# EAGLE library part ADS8344N (library ADS8344N)
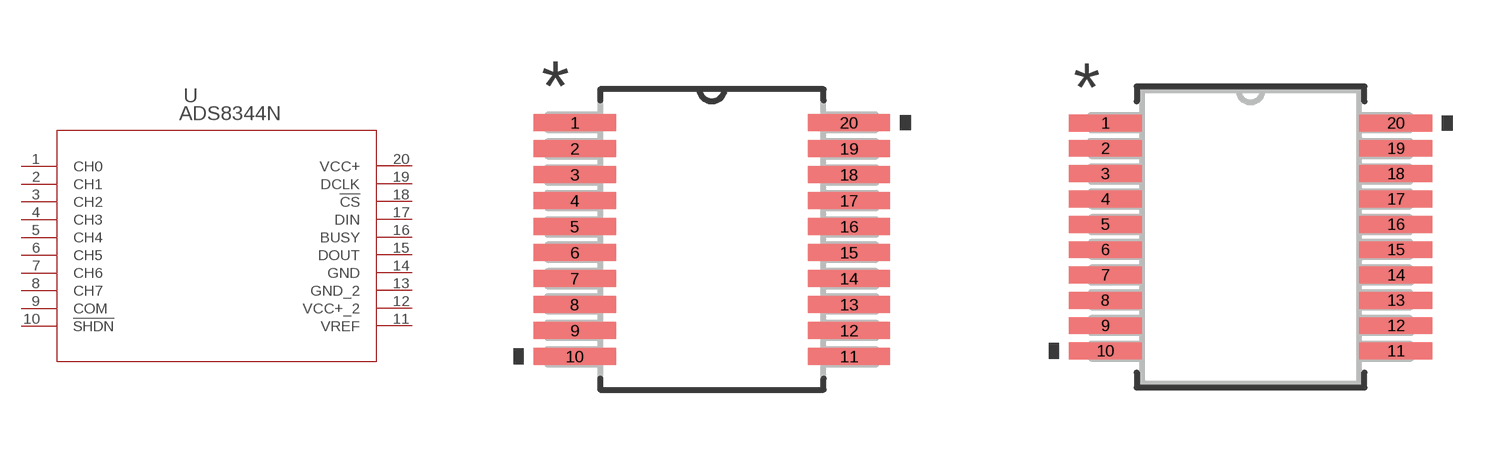
[diagram p0: symbol with the pads of DB20; footprints DB20, DB20-M]

Designator prefix U

## ADS8344N (DATASHEET_URL: http://www.ti.com/lit/gpn/ADS8344; DESCRIPTION: 16-Bit, 8-Channel Serial Output Sampling Analog-to-Digital Converter; FAMILY_NAME: PRECISION ADC (<=10MSPS); GENERIC_PART_NUMBER: ADS8344; INDUSTRY_STD_PKG_TYPE: SSOP; MANUFACTURER: Texas Instruments; PACKAGE_DESIGNATOR: DB; PIN_COUNT: 20)  [DB20]
1  CH0  in
2  CH1  in
3  CH2  in
4  CH3  in
5  CH4  in
6  CH5  in
7  CH6  in
8  CH7  in
9  COM  in
10  !SHDN  pas
11  VREF  in
12  VCC+_2  pwr
13  GND_2  pwr
14  GND  pwr
15  DOUT  out
16  BUSY  out
17  DIN  in
18  !CS  in
19  DCLK  in
20  VCC+  pwr

## ADS8344NDB20-M (DATASHEET_URL: http://www.ti.com/lit/gpn/ADS8344; DESCRIPTION: 16-Bit, 8-Channel Serial Output Sampling Analog-to-Digital Converter; FAMILY_NAME: PRECISION ADC (<=10MSPS); GENERIC_PART_NUMBER: ADS8344; INDUSTRY_STD_PKG_TYPE: SSOP; MANUFACTURER: Texas Instruments; PACKAGE_DESIGNATOR: DB; PIN_COUNT: 20)  [DB20-M]
Pads as for DB20

## ADS8344NDB20-L (DATASHEET_URL: http://www.ti.com/lit/gpn/ADS8344; DESCRIPTION: 16-Bit, 8-Channel Serial Output Sampling Analog-to-Digital Converter; FAMILY_NAME: PRECISION ADC (<=10MSPS); GENERIC_PART_NUMBER: ADS8344; INDUSTRY_STD_PKG_TYPE: SSOP; MANUFACTURER: Texas Instruments; PACKAGE_DESIGNATOR: DB; PIN_COUNT: 20)  [DB20-L]
Pads as for DB20

## Footprint DB20 (pad centres in mm)
smd 2.057 x 0.432: 1 -3.429,2.925; 2 -3.429,2.275; 3 -3.429,1.625; 4 -3.429,0.975; 5 -3.429,0.325; 6 -3.429,-0.325; 7 -3.429,-0.975; 8 -3.429,-1.625; 9 -3.429,-2.275; 10 -3.429,-2.925; 11 3.429,-2.925; 12 3.429,-2.275; 13 3.429,-1.625; 14 3.429,-0.975; 15 3.429,-0.325; 16 3.429,0.325; 17 3.429,0.975; 18 3.429,1.625; 19 3.429,2.275; 20 3.429,2.925

## Footprint DB20-M (pad centres in mm)
smd 1.867 x 0.432: 1 -3.727,2.925; 2 -3.727,2.275; 3 -3.727,1.625; 4 -3.727,0.975; 5 -3.727,0.325; 6 -3.727,-0.325; 7 -3.727,-0.975; 8 -3.727,-1.625; 9 -3.727,-2.275; 10 -3.727,-2.925; 11 3.727,-2.925; 12 3.727,-2.275; 13 3.727,-1.625; 14 3.727,-0.975; 15 3.727,-0.325; 16 3.727,0.325; 17 3.727,0.975; 18 3.727,1.625; 19 3.727,2.275; 20 3.727,2.925

## Footprint DB20-L (pad centres in mm)
smd 1.346 x 0.381: 1 -3.581,2.925; 2 -3.581,2.275; 3 -3.581,1.625; 4 -3.581,0.975; 5 -3.581,0.325; 6 -3.581,-0.325; 7 -3.581,-0.975; 8 -3.581,-1.625; 9 -3.581,-2.275; 10 -3.581,-2.925; 11 3.581,-2.925; 12 3.581,-2.275; 13 3.581,-1.625; 14 3.581,-0.975; 15 3.581,-0.325; 16 3.581,0.325; 17 3.581,0.975; 18 3.581,1.625; 19 3.581,2.275; 20 3.581,2.925